# EAGLE library part BC847BDW1T1G (library BC847BDW1T1G)
Device Marking: BC846BDW1T1 = 1B BC847BDW1T1 = 1F BC847CDW1T1 = 1G BC848BDW1T1 = 1K BC848CDW1T1 = 1L; These Devices are Pb-Free, Halogen Free/BFR Free and are RoHS Compliant; S and NSV Prefix for Automotive and Other Applications Requiring Unique Site and Control Change Requirements; AECQ101 Qualified and PPAP Capable Source: Datasheet <https://www.onsemi.com/pub/Collateral/BC846BDW1T1-D.PDF>
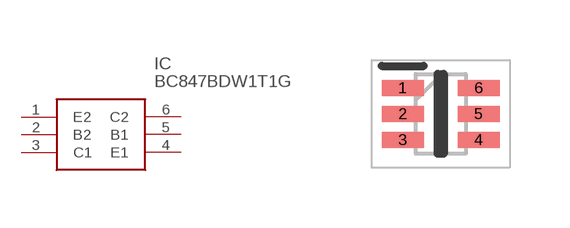
[diagram p0: symbol with the pads of SOT65P210X110-6N; footprint SOT65P210X110-6N]

Designator prefix IC

## BC847BDW1T1G (Description: Device Marking: BC846BDW1T1 = 1B BC847BDW1T1 = 1F BC847CDW1T1 = 1G BC848BDW1T1 = 1K BC848CDW1T1 = 1L; These Devices are Pb-Free, Halogen Free/BFR Free and are RoHS Compliant; S and NSV Prefix for Automotive and Other Applications Requiring Unique Site and Control Change Requirements; AECQ101 Qualified and PPAP Capable; Height: 1.1mm; Manufacturer_Name: onsemi; Manufacturer_Part_Number: BC847BDW1T1G; Mouser_Part_Number: 863-BC847BDW1T1G; Mouser_Price-Stock: https://www.mouser.co.uk/ProductDetail/onsemi/BC847BDW1T1G?qs=vNc2DXHODiJIIkxW3oEo4A%3D%3D)  [SOT65P210X110-6N]
1  E2
2  B2
3  C1
4  E1
5  B1
6  C2

## Footprint SOT65P210X110-6N (pad centres in mm)
sot-363
smd 1.05 x 0.4: 1 -0.95,0.65; 2 -0.95,0; 3 -0.95,-0.65; 4 0.95,-0.65; 5 0.95,0; 6 0.95,0.65